# EAGLE library part STM8S103F3P3TR (library Microcontroller)
IC MCU 8BIT 8KB FLASH 20TSSOP Manufacturer's datasheet <https://www.st.com/content/ccc/resource/technical/document/datasheet/ce/13/13/03/a9/a4/42/8f/CD00226640.pdf/files/CD00226640.pdf/jcr:content/translations/en.CD00226640.pdf>
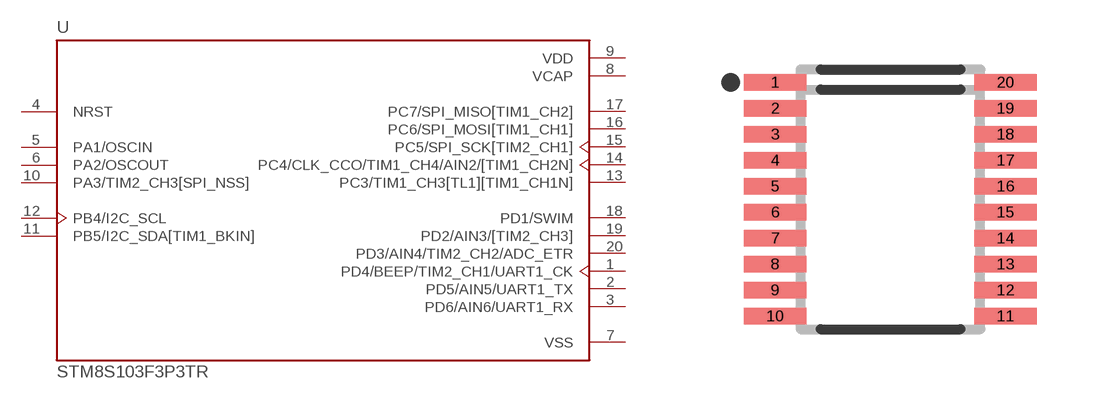
[diagram p26: symbol with the pads of TSSOP20; footprint TSSOP20]

Designator prefix U

## STM8S103F3P3TR (CREATED_BY: PCBLayout.com; DIGIKEY_PARTNO: 497-18852-6-ND; MANUFACTURER: STMicroelectronics; MPN: STM8S103F3P3TR; PACKAGE: TSSOP20)  [TSSOP20]
1  PD4/BEEP/TIM2_CH1/UART1_CK
2  PD5/AIN5/UART1_TX
3  PD6/AIN6/UART1_RX
4  NRST
5  PA1/OSCIN
6  PA2/OSCOUT
7  VSS  pwr
8  VCAP  pwr
9  VDD  pwr
10  PA3/TIM2_CH3[SPI_NSS]
11  PB5/I2C_SDA[TIM1_BKIN]
12  PB4/I2C_SCL
13  PC3/TIM1_CH3[TL1][TIM1_CH1N]
14  PC4/CLK_CCO/TIM1_CH4/AIN2/[TIM1_CH2N]
15  PC5/SPI_SCK[TIM2_CH1]
16  PC6/SPI_MOSI[TIM1_CH1]
17  PC7/SPI_MISO[TIM1_CH2]
18  PD1/SWIM
19  PD2/AIN3/[TIM2_CH3]
20  PD3/AIN4/TIM2_CH2/ADC_ETR

## Footprint TSSOP20 (pad centres in mm)
smd 1.56 x 0.41: 1 -2.88,2.925; 2 -2.88,2.275; 3 -2.88,1.625; 4 -2.88,0.975; 5 -2.88,0.325; 6 -2.88,-0.325; 7 -2.88,-0.975; 8 -2.88,-1.625; 9 -2.88,-2.275; 10 -2.88,-2.925; 11 2.88,-2.925; 12 2.88,-2.275; 13 2.88,-1.625; 14 2.88,-0.975; 15 2.88,-0.325; 16 2.88,0.325; 17 2.88,0.975; 18 2.88,1.625; 19 2.88,2.275; 20 2.88,2.925